# EAGLE library part ESP_COMPO (library 03 Fusion360 ESP12E)
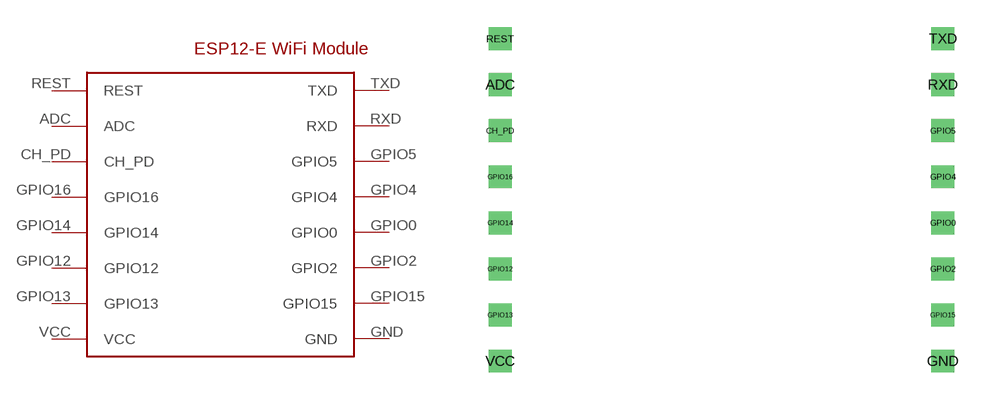
[diagram p0: symbol with the pads of ESP_FOOT; footprint ESP_FOOT]

Designator prefix -

## ESP_COMPO  [ESP_FOOT]
ADC  ADC
CH_PD  CH_PD
GND  GND
GPIO0  GPIO0
GPIO2  GPIO2
GPIO4  GPIO4
GPIO5  GPIO5
GPIO12  GPIO12
GPIO13  GPIO13
GPIO14  GPIO14
GPIO15  GPIO15
GPIO16  GPIO16
REST  REST
RXD  RXD
TXD  TXD
VCC  VCC

## Footprint ESP_FOOT (pad centres in mm)
drill 0.75 square: ADC 3.302,-9.398; CH_PD 3.302,-11.938; GND 27.686,-24.638; GPIO0 27.686,-17.018; GPIO2 27.686,-19.558; GPIO4 27.686,-14.478; GPIO5 27.686,-11.938; GPIO12 3.302,-19.558; GPIO13 3.302,-22.098; GPIO14 3.302,-17.018; GPIO15 27.686,-22.098; GPIO16 3.302,-14.478; REST 3.302,-6.858; RXD 27.686,-9.398; TXD 27.686,-6.858; VCC 3.302,-24.638